# Altium footprint library BG0250TG.PcbLib: 14 footprints
Each footprint in its own frame and in the unit in brackets; x right, y up, seen from the top. Pads: shape width x height; smd on the part's side, far side on the other; paste and mask are expansions set on the pad; w line width, h text height; cw(c..) or ccw(c..) is an arc to the next point about the centre after c.
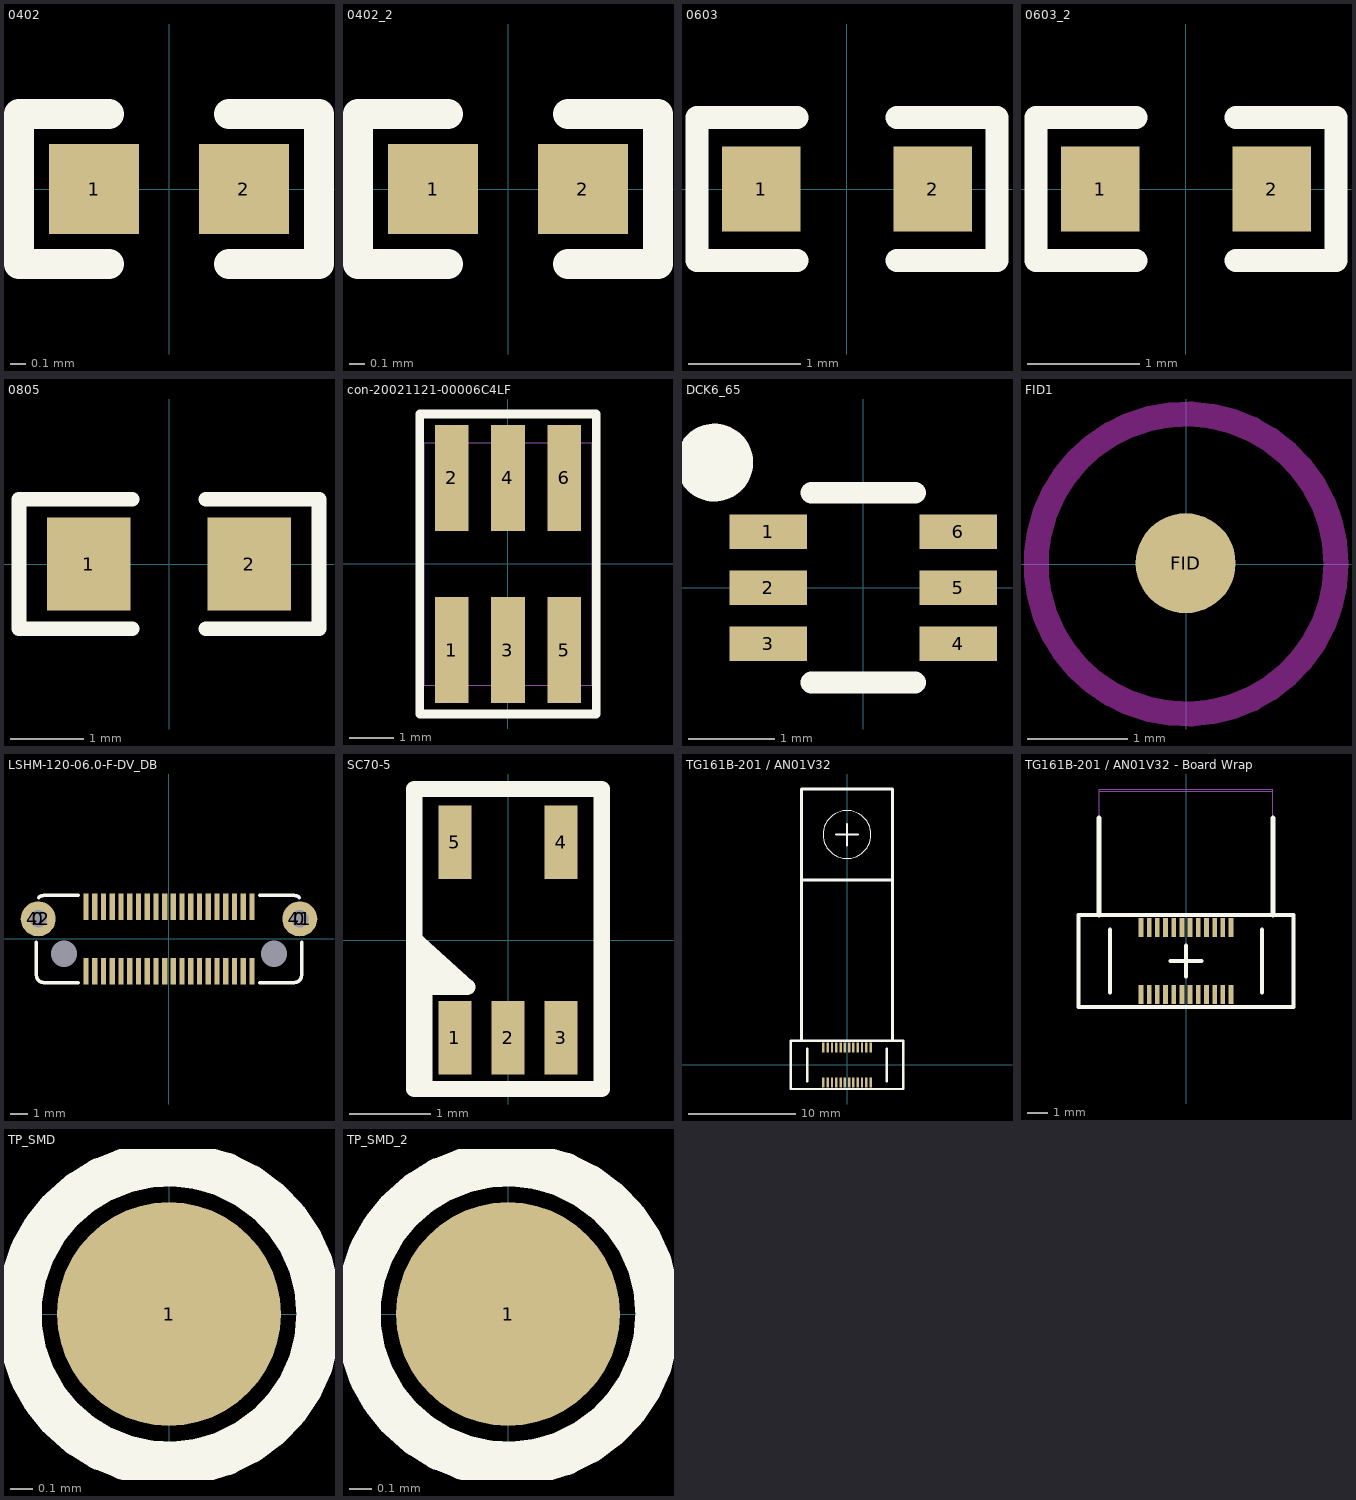
[diagram p0: the footprints below, top view; thin cyan lines are the x and y axes]

## 0402 [mm]
pads (2):
  rect 0.6x0.6 smd mask+0.07: 1(-0.5,0) 2(0.5,0)
Top Overlay:
  lines w0.2: -0.4,-0.5 -1,-0.5 -1,0.5 -0.4,0.5 ; 0.4,-0.5 1,-0.5 1,0.5 0.4,0.5
3D body: height 0.4, standoff 0, extent -0.6,-0.275 0.6,0.275

## 0402_2 [mm]
pads (2):
  rect 0.6x0.6 smd mask+0.07: 1(-0.5,0) 2(0.5,0)
Top Overlay:
  lines w0.2: -0.4,-0.5 -1,-0.5 -1,0.5 -0.4,0.5 ; 0.4,-0.5 1,-0.5 1,0.5 0.4,0.5
3D body: height 0.4, standoff 0, extent -0.6,-0.275 0.6,0.275

## 0603 [mm]
pads (2):
  rect 0.7x0.76 smd: 1(-0.762,0) 2(0.762,0)
Top Overlay:
  lines w0.203: -0.444,-0.635 -1.333,-0.635 -1.333,0.635 -0.444,0.635 ; 0.445,-0.635 1.334,-0.635 1.334,0.635 0.445,0.635
3D body: height 0.51, standoff 0, extent 0.675,-0.4 0.8,0.4
3D body: height 0.51, standoff 0, extent -0.8,-0.4 -0.675,0.4
3D body: height 0.45, standoff 0, extent -0.762,-0.381 0.762,0.381

## 0603_2 [mm]
pads (2):
  rect 0.7x0.76 smd: 1(-0.762,0) 2(0.762,0)
Top Overlay:
  lines w0.203: -0.444,-0.635 -1.333,-0.635 -1.333,0.635 -0.444,0.635 ; 0.445,-0.635 1.334,-0.635 1.334,0.635 0.445,0.635
3D body: height 0.51, standoff 0, extent 0.675,-0.4 0.8,0.4
3D body: height 0.51, standoff 0, extent -0.8,-0.4 -0.675,0.4
3D body: height 0.45, standoff 0, extent -0.762,-0.381 0.762,0.381

## 0805 [mm]
pads (2):
  rect 1.143x1.27 smd: 1(-1.1,0) 2(1.1,0)
Top Overlay:
  lines w0.203: -0.508,-0.889 -2.059,-0.889 -2.059,0.889 -0.508,0.889 ; 0.508,-0.889 2.059,-0.889 2.059,0.889 0.508,0.889
3D body: height 0.51, standoff 0, extent -1.2,-0.65 -1.075,0.65
3D body: height 0.51, standoff 0, extent 1.075,-0.65 1.2,0.65
3D body: height 0.5, standoff 0, extent -1.15,-0.635 1.175,0.635

## con-20021121-00006C4LF [mm]
pads (6):
  rect 0.76x2.4 smd: 1(-1.27,-1.95) 2(-1.27,1.95) 3(0,-1.95) 4(0,1.95) 5(1.27,-1.95) 6(1.27,1.95)
Top Overlay:
  lines w0.203: -2,-3.4 2,-3.4 2,3.4 -2,3.4 -2,-3.4
Mechanical 1:
  lines w0.025: -1.9,-2.75 1.905,-2.75 1.905,2.75 -1.9,2.75 -1.9,-2.75
3D body "20960.stp": height 4.1, standoff -0.4, extent -1.905,-2.75 1.905,2.75

## DCK6_65 [mm]
pads (6):
  rect 0.9x0.4 smd: 1(-1.1,0.65) 2(-1.1,0) 3(-1.1,-0.65) 4(1.1,-0.65) 5(1.1,0) 6(1.1,0.65)
Top Overlay:
  circle w0.5: c-1.725,1.45 r0.2
  lines w0.254: -0.6,-1.1 0.6,-1.1 ; -0.6,1.1 0.6,1.1
3D body: height 0.5, standoff 0, extent 0.675,0.5 1.075,0.8
3D body: height 0.5, standoff 0, extent 0.675,-0.137 1.075,0.163
3D body: height 0.5, standoff 0, extent 0.675,-0.8 1.075,-0.5
3D body: height 0.5, standoff 0, extent -1.075,-0.8 -0.675,-0.5
3D body: height 0.5, standoff 0, extent -1.075,-0.137 -0.675,0.163
3D body: height 0.5, standoff 0, extent -1.075,0.5 -0.675,0.8
3D body: height 1.1, standoff 0, extent -0.675,-1.075 0.675,1.1

## FID1 [mm]
pads (1):
  round 1 smd paste-0.5 mask+0.75: FID(-0.004,0.008)
Top Layer keep-out:
  circle w0.25: c0,0 r1.5

## LSHM-120-06.0-F-DV_DB [mm]
pads (46):
  round 2.2 on Top Paste mask+0.05: 0(-7.475,1.15) 0(7.475,1.15)
  rect 0.3x1.5 smd mask+0.05: 1(4.75,-1.85) 2(4.75,1.85) 3(4.25,-1.85) 4(4.25,1.85) 5(3.75,-1.85) 6(3.75,1.85) 7(3.25,-1.85) 8(3.25,1.85) 9(2.75,-1.85) 10(2.75,1.85) 11(2.25,-1.85) 12(2.25,1.85) 13(1.75,-1.85) 14(1.75,1.85) 15(1.25,-1.85) 16(1.25,1.85) 17(0.75,-1.85) 18(0.75,1.85) 19(0.25,-1.85) 20(0.25,1.85) 21(-0.25,-1.85) 22(-0.25,1.85) 23(-0.75,-1.85) 24(-0.75,1.85) 25(-1.25,-1.85) 26(-1.25,1.85) 27(-1.75,-1.85) 28(-1.75,1.85) 29(-2.25,-1.85) 30(-2.25,1.85) 31(-2.75,-1.85) 32(-2.75,1.85) 33(-3.25,-1.85) 34(-3.25,1.85) 35(-3.75,-1.85) 36(-3.75,1.85) 37(-4.25,-1.85) 38(-4.25,1.85) 39(-4.75,-1.85) 40(-4.75,1.85)
  round 2 hole 1 mask+0.05: 41(7.475,1.15) 42(-7.475,1.15)
  rect 0x0 hole 1.5 unplated mask+0.05: 43(6,-0.85) 44(-6,-0.85)
Top Overlay:
  lines w0.2: -7.575,-0.2 -7.575,-2.08 ccw(c-7.165,-2.08) -7.165,-2.49 -5.2,-2.49 ; -7.455,2.37 cw(c-7.165,2.081) -7.165,2.49 -5.2,2.49 ; 5.2,-2.49 7.165,-2.49 ccw(c7.165,-2.08) 7.575,-2.08 7.575,-0.2 ; 5.2,2.49 7.165,2.49 cw(c7.165,2.081) 7.455,2.37
3D body "LSHM-120-06.0-X-DV-A-N.step": height 7.45, standoff -0.85, extent -7.4,-2.54 7.4,2.59

## SC70-5 [mm]
pads (5):
  rect 0.4x0.9 smd mask+0.05: 1(-0.65,-1.2) 2(0,-1.2) 3(0.65,-1.2) 4(0.65,1.2) 5(-0.65,1.2)
Top Overlay:
  region: -1.15,0.012 -0.563,-0.575 -1.15,-0.575
  lines w0.2: -1.15,-0.7 -1.025,-0.7 ; -1.15,0.012 -0.5,-0.575 -1.025,-0.575 -1.025,-0.625 -1.025,-0.7 ; -1.025,-1.825 -1.025,-0.7 ; -1.15,-1.825 -1.15,1.85 1.15,1.85 1.15,-1.825 -1.15,-1.825
3D body: height 0.5, standoff 0, extent 0.5,-1.05 0.8,-0.65
3D body: height 0.5, standoff 0, extent -0.8,-1.05 -0.5,-0.65
3D body: height 0.5, standoff 0, extent -0.8,0.65 -0.5,1.05
3D body: height 0.5, standoff 0, extent 0.5,0.65 0.8,1.05
3D body: height 0.5, standoff 0, extent -0.15,-1.05 0.15,-0.65
3D body: height 1.1, standoff 0, extent -1,-0.65 1,0.65

## TG161B-201 / AN01V32 [mm] "SMT connector: BBR43-24KB533"
pads (24):
  rect 0.23x0.92 smd mask+0.05: 1(-2.2,1.64) 2(-1.8,1.64) 3(-1.4,1.64) 4(-1,1.64) 5(-0.6,1.64) 6(-0.2,1.64) 7(0.2,1.64) 8(0.6,1.64) 9(1,1.64) 10(1.4,1.64) 11(1.8,1.64) 12(2.2,1.64) 13(2.2,-1.64) 14(1.8,-1.64) 15(1.4,-1.64) 16(1,-1.64) 17(0.6,-1.64) 18(0.2,-1.64) 19(-0.2,-1.64) 20(-0.6,-1.64) 21(-1,-1.64) 22(-1.4,-1.64) 23(-1.8,-1.64) 24(-2.2,-1.64)
Top Overlay:
  circle w0.1: c0,21.5 r2.236
  lines w0.2: -3.705,-1.53 -3.705,1.53 ; -1,21.5 1,21.5 ; 0,20.5 0,22.5 ; 3.705,-1.53 3.705,1.53 ; -5.25,-2.25 5.25,-2.25 5.25,2.25 -5.25,2.25 -5.25,-2.25
  lines w0.25: -4.25,2.25 -4.25,17.25 ; 4.25,2.25 4.25,17.25 ; -4.25,17.25 -4.25,25.75 4.25,25.75 4.25,17.25 ; -4.25,17.25 4.25,17.25
3D body: height 4.4, standoff 1.7, extent -2.75,18.75 2.75,24.25
3D body: height 3.4, standoff 1.7, extent -3.25,18.253 3.25,24.747
3D body: height 1.7, standoff 0, extent -4.25,17.25 4.25,25.75
3D body: height 0.94, standoff 0.84, extent -5.25,-2.25 5.25,25.75

## TG161B-201 / AN01V32 - Board Wrap [mm] "SMT connector: BBR43-24KB533"
pads (24):
  rect 0.23x0.92 smd mask+0.05: 1(-2.2,-19.86) 2(-1.8,-19.86) 3(-1.4,-19.86) 4(-1,-19.86) 5(-0.6,-19.86) 6(-0.2,-19.86) 7(0.2,-19.86) 8(0.6,-19.86) 9(1,-19.86) 10(1.4,-19.86) 11(1.8,-19.86) 12(2.2,-19.86) 13(2.2,-23.14) 14(1.8,-23.14) 15(1.4,-23.14) 16(1,-23.14) 17(0.6,-23.14) 18(0.2,-23.14) 19(-0.2,-23.14) 20(-0.6,-23.14) 21(-1,-23.14) 22(-1.4,-23.14) 23(-1.8,-23.14) 24(-2.2,-23.14)
Top Overlay:
  lines w0.2: -3.705,-23.03 -3.705,-19.97 ; -0.75,-21.5 0,-21.5 ; 0,-22.25 0,-21.5 ; 0,-20.75 0,-21.5 ; 0.75,-21.5 0,-21.5 ; 3.705,-23.03 3.705,-19.97 ; -5.25,-23.75 5.25,-23.75 5.25,-19.25 -5.25,-19.25 -5.25,-23.75
  lines w0.25: -4.25,-19.25 -4.25,-14.5 ; 4.25,-19.25 4.25,-14.5
Bottom Overlay:
  circle w0.1: c0,-23.5 r2.236
  lines w0.2: -1,-23.5 1,-23.5 ; 0,-24.5 0,-22.5
  lines w0.25: -4.25,-14.5 -4.25,-19.25 ; 4.25,-14.5 4.25,-19.25 ; -4.25,-19.25 4.25,-19.25 ; -4.25,-19.25 -4.25,-27.75 4.25,-27.75 4.25,-19.25
Mechanical 1:
  lines w0.025: -4.25,-19.25 -4.25,-13.19 ; 4.25,-19.25 4.25,-13.19 ; -4.25,-13.19 4.25,-13.19 ; -4.25,-13.19 -4.25,-13.09 4.25,-13.09 4.25,-13.19
3D body: height 0.94, standoff 0.84, extent -5.25,-23.75 5.25,-19.25
3D body: height 0.94, standoff -1.94, extent -4.25,-13.19 4.25,-13.09
3D body: height 0.34, standoff 0.24, extent -4.25,-19.25 4.25,-13.19
3D body: height 4.4, standoff 1.7, extent -2.75,-26.25 2.75,-20.75
3D body: height 3.4, standoff 1.7, extent -3.25,-26.747 3.25,-20.253
3D body: height 1.7, standoff 0, extent -4.25,-27.75 4.25,-19.25
3D body: height 0.94, standoff 0.84, extent -4.25,-19.25 4.25,-13.19

## TP_SMD [mm]
pads (1):
  round 1 smd paste-0.5 mask+0: 1(0,0)
Top Overlay:
  circle w0.2: c0,0 r0.67

## TP_SMD_2 [mm]
pads (1):
  round 1 smd paste-0.5 mask+0: 1(0,0)
Top Overlay:
  circle w0.2: c0,0 r0.67